# Altium integrated library IPB60R190C6.IntLib: 1 symbol
Pins are listed as number, name and electrical type; pins without a type are passive.

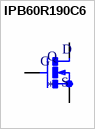
[diagram p0: symbol IPB60R190C6]

## IPB60R190C6
designator Q
N-Channel 600V 20.2A (Tc) 151W (Tc) Surface Mount DÂ²PAK (TO-263AB); MP: IPB60R190C6; MF: Infineon; SnapEDA_Link: https://www.snapeda.com/parts/IPB60R190C6/Infineon/view-part/447919/?ref=snap; Value: *; Package: TO-263 Infineon; Digi-Key_Part_Number: IPB60R190C6ATMA1CT-ND
footprint TO263-3
pins: 1 G, 2 D, 3 S